# Altium schematic symbol library DualColorLEDLighting-PCB.SCHLIB: 10 symbols
Pins are listed as number, name and electrical type; pins without a type are passive.

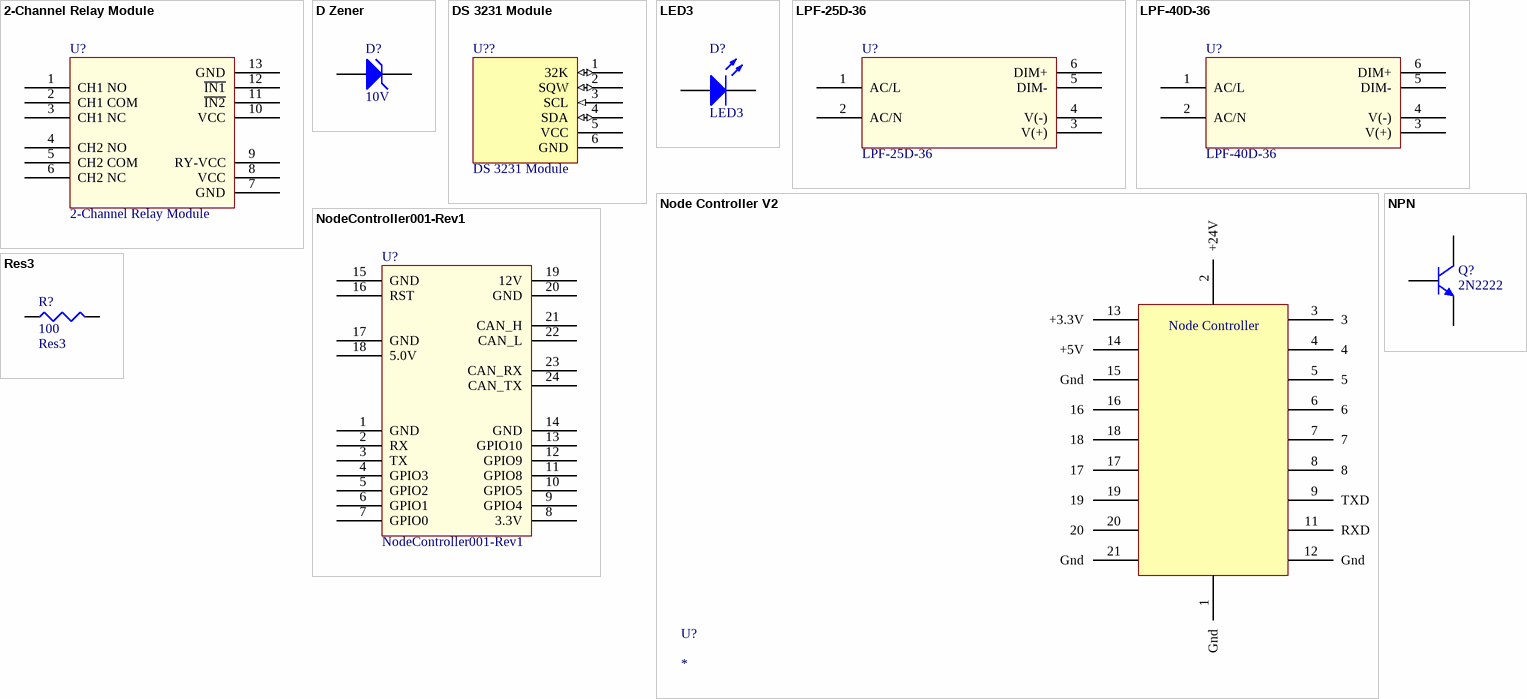
[diagram p0: symbols 2-Channel Relay Module to Res3]

## 2-Channel Relay Module
designator U?
2-Channel Relay Module for Arduino & Raspberry Pi - 5V
pins: 1 CH1 NO, 2 CH1 COM, 3 CH1 NC, 4 CH2 NO, 5 CH2 COM, 6 CH2 NC, 7 GND, 8 VCC, 9 RY-VCC, 10 VCC, 11 ~{IN2}, 12 ~{IN1}, 13 GND

## D Zener
designator D?, comment 10V
Zener Diode; Published: 8-Jun-2000; LatestRevisionDate: 17-Jul-2002; LatestRevisionNote: Re-released for DXP Platform.; PackageReference: DIODE-0.7; Publisher: Altium Limited; PackageDescription: Diode, Thru-Hole; 2 Leads; 0.7 in Pin Spacing
footprint DIODE-0.7 (Diode, Thru-Hole; 2 Leads; 0.7 in Pin Spacing)
simulation model ZENER (Diode)
signal-integrity model D Zener
pins: 1 A, 2 K

## DS 3231 Module
designator U??
DS3231 Real Time Clock Module
footprint RAD0.1B
pins: 1 32K (io), 2 SQW (io), 3 SCL (in), 4 SDA (io), 5 VCC (power), 6 GND (power)

## LED3
designator D?
Typical BLUE SiC LED; Published: 8-Jun-2000; LatestRevisionDate: 17-Dec-2003; LatestRevisionNote: PCB Footprint replaced.; DatasheetVersion: 16-Apr-2002; PackageVersion: 16-Apr-2002; PackageReference: 3.5X2.8X1.9; Publisher: Altium Limited; PackageDescription: SM LED; 2 C-Bend Leads; Body 3.5 x 2.8 x 1.9 mm, inc leads (LxWxH typ)
footprint 3.5X2.8X1.9 (SM LED; 2 C-Bend Leads; Body 3.5 x 2.8 x 1.9 mm, inc leads (LxWxH typ))
simulation model LED3 (Diode)
signal-integrity model LED
pins: 1 A, 2 K

## LPF-25D-36
designator U?
LED DRVR CC AC/DC 19.8-36V 700MA
pins: 1 AC/L, 2 AC/N, 3 V(+), 4 V(-), 5 DIM-, 6 DIM+

## LPF-40D-36
designator U?
LED DRVR CC AC/DC 21.6-36V 1.12A
pins: 1 AC/L, 2 AC/N, 3 V(+), 4 V(-), 5 DIM-, 6 DIM+

## Node Controller V2
designator U?
pins: 1 Gnd "Ground", 2 +24V, 3 "GPIO0", 4 "GPIO1", 5 "GPIO2", 6 "GPIO3", 7 "GPIO19", 8 "GPIO18", 9 TXD, 11 RXD, 12 Gnd "Ground", 13 +3.3V, 14 +5V, 15 Gnd "Ground", 16 "GPIO4", 17 "GPIO5", 18 "GPIO8", 19 "GPIO9", 20 "GPIO10", 21 Gnd "Ground"
text: Node Controller

## NodeController001-Rev1
designator U?
pins: 1 GND, 2 RX, 3 TX, 4 GPIO3, 5 GPIO2, 6 GPIO1, 7 GPIO0, 8 3.3V, 9 GPIO4, 10 GPIO5, 11 GPIO8, 12 GPIO9, 13 GPIO10, 14 GND, 15 GND, 16 RST, 17 GND, 18 5.0V, 19 12V, 20 GND, 21 CAN_H, 22 CAN_L, 23 CAN_RX, 24 CAN_TX

## NPN
designator Q?, comment 2N2222
NPN Bipolar Transistor; Published: 8-Jun-2000; LatestRevisionDate: 17-Jul-2002; LatestRevisionNote: Re-released for DXP Platform.; PackageReference: TO-226-AA; Publisher: Altium Limited; PackageDescription: TO, Flat Index; 3 In-Line, Axial Leads; Body Dia. 4.8mm; Leads 0.55 x 0.51 mm (max); Code_JEDEC: TO-226-AA
footprint TO-226-AA (TO, Flat Index; 3 In-Line, Axial Leads; Body Dia. 4.8mm; Leads 0.55 x 0.51 mm (max))
simulation model NPN
signal-integrity model NPN
pins: 1 C, 2 B, 3 E

## Res3
designator R?  value 100
Resistor; Published: 8-Jun-2000; LatestRevisionDate: 29-May-2009; LatestRevisionNote: IPC-7351 Footprint Added.; PackageReference: J1-0603; Publisher: Altium Limited; PackageDescription: Chip Resistor
footprint J1-0603 (Chip Resistor, Body 1.6x0.8mm, IPC High Density)
footprint 14-1210 (Chip Resistor, Body 3.2x2.5mm, IPC High Density)
footprint 12Z-2010 (Chip Resistor, Body 5.0x2.5mm, IPC High Density)
footprint RESC6332 (Chip Resistor, Body 6.3x3.2mm, IPC High Density)
simulation model RESISTOR (Resistor)
signal-integrity model Res
pins: 1, 2